# EAGLE library part MH-Z19 (library MH-z19)
MH-z19 Footprint EAGLE footprint of MH-z19 CO2 sensor. Designed by AKstudios github.com/akstudios
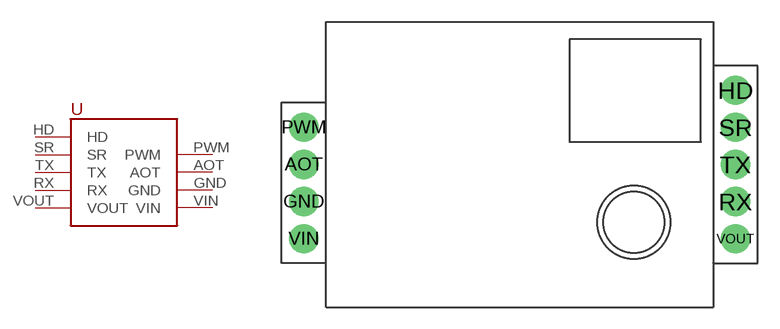
[diagram p0: symbol with the pads of MH-Z19; footprint MH-Z19]

Designator prefix -

## MH-Z19  [MH-Z19]
AOT  AOT
GND  GND
HD  HD
PWM  PWM
RX  RX
SR  SR
TX  TX
VIN  VIN
VOUT  VOUT

## Footprint MH-Z19 (pad centres in mm)
drill 1 pad 2: AOT 1.515,9.75; GND 1.515,7.21; HD 31.055,14.83; PWM 1.515,12.29; RX 31.055,7.21; SR 31.055,12.29; TX 31.055,9.75; VIN 1.515,4.67; VOUT 31.055,4.67